# EAGLE library part INA116U (library burr-brown)
Precision, Low Power Instrumentation Amplifier
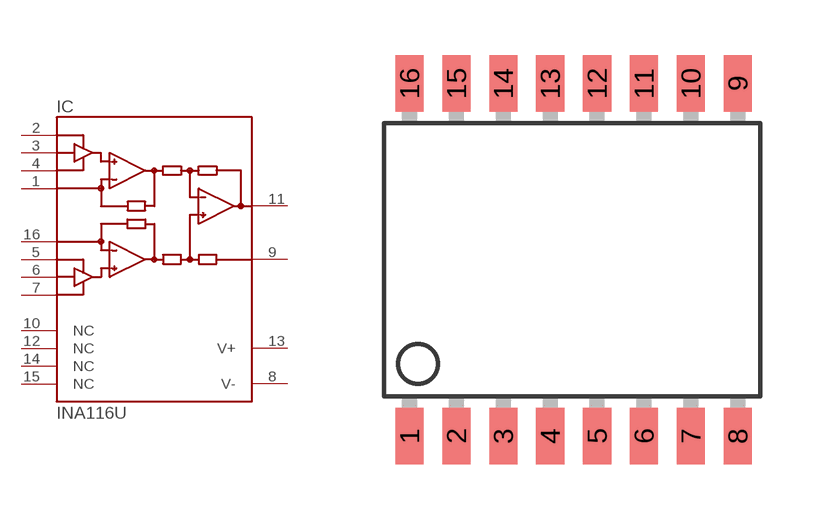
[diagram p250: symbol with the pads of SO16-1; footprint SO16-1]

Designator prefix IC

## INA116U  [SO16-1]
1  RG  pas
2  GUARD-  pas
3  -IN  in
4  GUARD-  pas
5  GUARD+  pas
6  +IN  in
7  GUARD+  pas
8  V-  pwr
9  REF  pas
10  NC  nc
11  OUT  out
12  NC  nc
13  V+  pwr
14  NC  nc
15  NC  nc
16  RG  pas

## Footprint SO16-1 (pad centres in mm)
smd 0.762 x 1.524: 1 -4.445,-4.775; 2 -3.175,-4.775; 3 -1.905,-4.775; 4 -0.635,-4.775; 5 0.635,-4.775; 6 1.905,-4.775; 7 3.175,-4.775; 8 4.445,-4.775; 9 4.445,4.775; 10 3.175,4.775; 11 1.905,4.775; 12 0.635,4.775; 13 -0.635,4.775; 14 -1.905,4.775; 15 -3.175,4.775; 16 -4.445,4.775